# EAGLE library part TQFP64-DIP (library packages_ref)
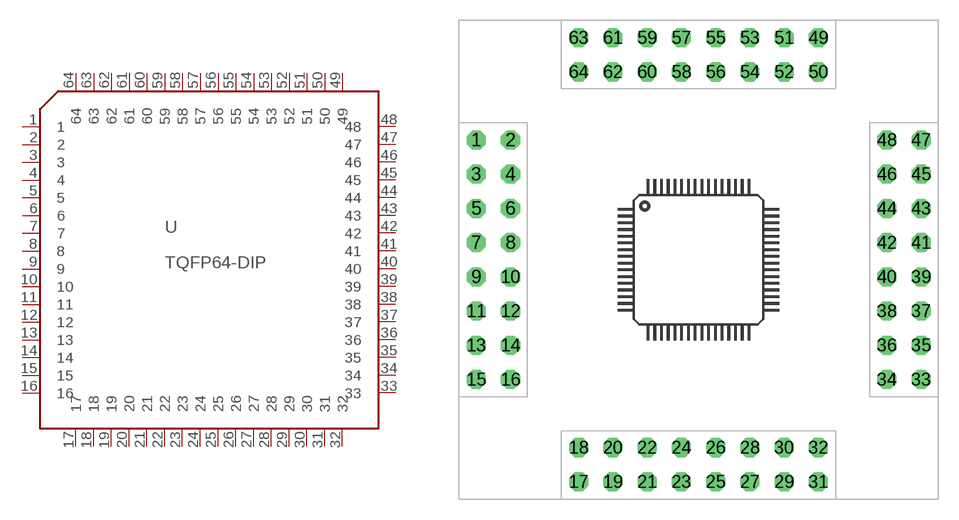
[diagram p1: symbol with the pads of TQFP64-DIP; footprint TQFP64-DIP]

Designator prefix -

## TQFP64-DIP  [TQFP64-DIP]
1  1
2  2
3  3
4  4
5  5
6  6
7  7
8  8
9  9
10  10
11  11
12  12
13  13
14  14
15  15
16  16
17  17
18  18
19  19
20  20
21  21
22  22
23  23
24  24
25  25
26  26
27  27
28  28
29  29
30  30
31  31
32  32
33  33
34  34
35  35
36  36
37  37
38  38
39  39
40  40
41  41
42  42
43  43
44  44
45  45
46  46
47  47
48  48
49  49
50  50
51  51
52  52
53  53
54  54
55  55
56  56
57  57
58  58
59  59
60  60
61  61
62  62
63  63
64  64

## Footprint TQFP64-DIP (pad centres in mm)
Thin Quad Flat Pack package type TQ
drill 0.6 pad 1.422 octagon: 1 -17.75,10.16; 2 -15.21,10.16; 3 -17.75,7.62; 4 -15.21,7.62; 5 -17.75,5.08; 6 -15.21,5.08; 7 -17.75,2.54; 8 -15.21,2.54; 9 -17.75,0; 10 -15.21,0; 11 -17.75,-2.54; 12 -15.21,-2.54; 13 -17.75,-5.08; 14 -15.21,-5.08; 15 -17.75,-7.62; 16 -15.21,-7.62; 17 -10.16,-15.21; 18 -10.16,-12.67; 19 -7.62,-15.21; 20 -7.62,-12.67; 21 -5.08,-15.21; 22 -5.08,-12.67; 23 -2.54,-15.21; 24 -2.54,-12.67; 25 0,-15.21; 26 0,-12.67; 27 2.54,-15.21; 28 2.54,-12.67; 29 5.08,-15.21; 30 5.08,-12.67; 31 7.62,-15.21; 32 7.62,-12.67; 33 15.24,-7.62; 34 12.7,-7.62; 35 15.24,-5.08; 36 12.7,-5.08; 37 15.24,-2.54; 38 12.7,-2.54; 39 15.24,0; 40 12.7,0; 41 15.24,2.54; 42 12.7,2.54; 43 15.24,5.08; 44 12.7,5.08; 45 15.24,7.62; 46 12.7,7.62; 47 15.24,10.16; 48 12.7,10.16; 49 7.62,17.75; 50 7.62,15.21; 51 5.08,17.75; 52 5.08,15.21; 53 2.54,17.75; 54 2.54,15.21; 55 0,17.75; 56 0,15.21; 57 -2.54,17.75; 58 -2.54,15.21; 59 -5.08,17.75; 60 -5.08,15.21; 61 -7.62,17.75; 62 -7.62,15.21; 63 -10.16,17.75; 64 -10.16,15.21